# Altium schematic symbol library KEY_PLC1.SchLib: 142 symbols
Pins are listed as number, name and electrical type; pins without a type are passive.

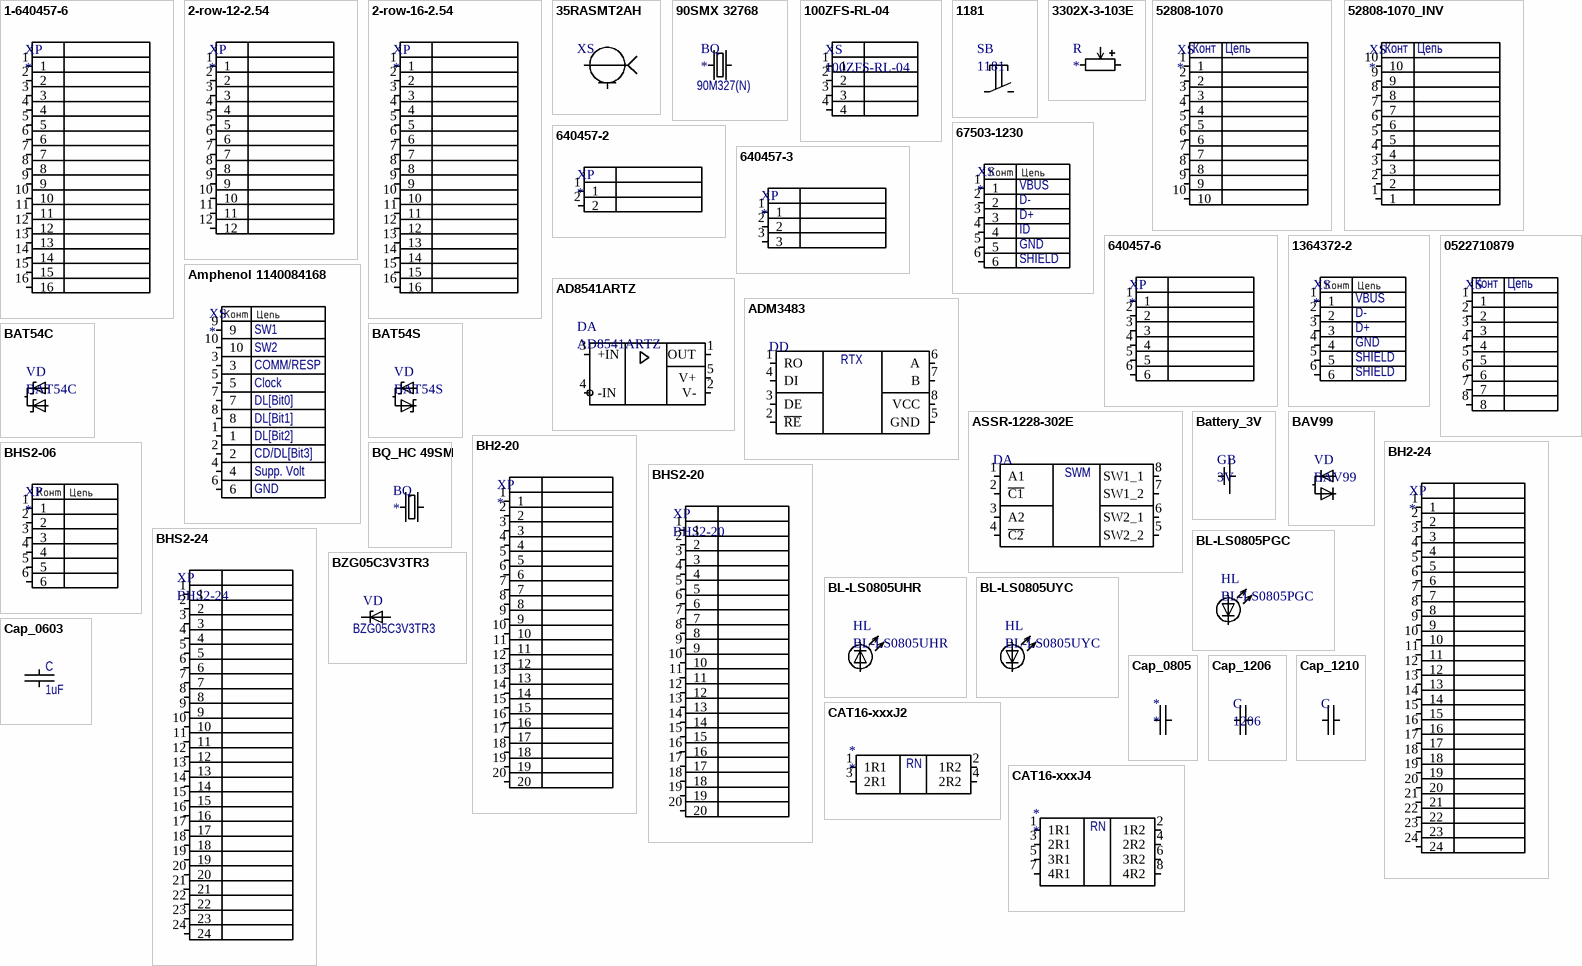
[diagram p0: symbols 1-640457-6 to CAT16-xxxJ4]

## 1-640457-6
designator XP
1-640457-6; Manufacturer: TE; Distributor: digikey; Part Number: 1-640457-6
footprint 1-640457-6
pins: 1, 2, 3, 4, 5, 6, 7, 8, 9, 10, 11, 12, 13, 14, 15, 16

## 2-row-12-2.54
designator XP
topology
footprint 2-row-2.54-12
pins: 1, 2, 3, 4, 5, 6, 7, 8, 9, 10, 11, 12

## 2-row-16-2.54
designator XP
topology
footprint 2-row-2.54-16
pins: 1, 2, 3, 4, 5, 6, 7, 8, 9, 10, 11, 12, 13, 14, 15, 16

## 35RASMT2AH
designator XS  (value not drawn)
35RASMT2AHNTRX SMT; Manufacturer: SWITCHCRAFT; PackageReference: 35RASMT2AHNTRX; Replacement: 35RASMT2AHNTRX; Part Number: 35RASMT2AHNTRX
footprint 35RASMT2AHNTRX (3.5 mm 35RASMT2AHNTRX)
pins: 4, 5

## 90SMX 32768
designator BQ  Part Number: 90M327(N)
Manufacturer: QCU; Replacement: 90M327(S); PackageReference: 90SMX
footprint 90SMX
pins: 1, 2

## 100ZFS-RL-04
designator XS
100ZFS-RL-04 type2; Manufacturer: RTC, TE; Replacement: FFC3B05-04-T; Value: 100ZFS-RL-04; Part Number: 100ZFS-RL-04 type2
footprint 100ZFS-RL-04 Type2
pins: 1, 2, 3, 4

## 1181
designator SB
PS580N button; Part Number: 1181; PackageReference: SMT
footprint 1181
pins: 1, 2

## 3302X-3-103E
designator R
Manufacturer: Bourns; Part Number: 3302X-3-103E; Price: 0.42$
footprint 3302X -3-103E (RESISTOR VARIABLE)
pins: 1, 2, 3

## 52808-1070
designator XS
MOLEX 10-way connector; Part Number: 52808-1070; PackageReference: SMT; Manufacturer: Molex
footprint 52808-1070 (52808-1070 Molex)
pins: 1, 2, 3, 4, 5, 6, 7, 8, 9, 10
text: Конт; Цепь

## 52808-1070_INV
designator XS
MOLEX 10-way connector; Part Number: 52808-1070; PackageReference: SMT; Manufacturer: Molex
footprint 52808-1070 (52808-1070 Molex)
pins: 1, 2, 3, 4, 5, 6, 7, 8, 9, 10
text: Конт; Цепь

## 67503-1230
designator XS
USB mini B; Part Number: 67503-1230; Manufacturer: MOLEX; Price: 1$; Distributor: http://www.brownbear.ru/; PackageReference: SMD
footprint 67503-1230 (67503-1230 MOLEX mini USB-B SMD)
pins: 1, 2, 3, 4, 5, 6
text: VBUS; D-; D+; ID; GND; SHIELD

## 640457-2
designator XP
640457-2; Manufacturer: TE; Price: 0.11; Distributor: digikey; Part Number: 640457-2
footprint 640457-2
pins: 1, 2

## 640457-3
designator XP
640457-3; Manufacturer: TE; Price: 0.16$; Distributor: digikey; Part Number: 640457-3
footprint 640457-3
pins: 1, 2, 3

## 640457-6
designator XP
640457-6; Manufacturer: TE; Price: 0.19$; Part Number: 640457-6
footprint 640457-6
pins: 1, 2, 3, 4, 5, 6

## 1364372-2
designator XS
USB mini B; Part Number: 1364372-2; Manufacturer: TE; Replacement: 1364372 Molex; Price: 0.5$; Distributor: http://www.brownbear.ru/; PackageReference: SMD
footprint 1364372 (Connector; USB1.1, Type A, Thru-Hole; 4 Position; Right Angle)
pins: 1, 2, 3, 4, 5, 6
text: VBUS; D-; D+; GND; SHIELD

## 0522710879
designator XS  (value not drawn)
0522710879; Manufacturer: Molex; Price: 0.8$; Value: 0522710879; Part Number: 0522710879
footprint 0522710879 (Molex)
pins: 1, 2, 3, 4, 5, 6, 7, 8
text: Конт; Цепь

## AD8541ARTZ
designator DA
OpAmp
footprint SOT23-5
pins: 1 OUT, 2 V-, 3 +IN, 4 -IN, 5 V+

## ADM3483
designator DD  (value not drawn)
RS-485 PHY; Manufacturer: Analog Devices; Replacement: ADM3483ARZ; Price: 1.1$; Distributor: http://analog.com; PackageReference: SO-8 narrow; Part Number: ADM3483ARZ
footprint SOIC8
pins: 1 RO, 2 ~{RE}, 3 DE, 4 DI, 5 GND, 6 A, 7 B, 8 VCC
text: RTX

## Amphenol 1140084168
designator XS
Manufacturer: Amphenol; Part Number: 114-00841-68; Price: 1$
footprint 114-00841-68 (uSD holder Amphenol)
pins: 1, 2, 3, 4, 5, 6, 7, 8, 9, 10
text: SW1; SW2; COMM/RESP; Clock; DL[Bit0]; DL[Bit1]; DL[Bit2]; CD/DL[Bit3]; Supp. Volt; GND

## ASSR-1228-302E
designator DA  (value not drawn)
RS-485 PHY; Manufacturer: AVAGO; Price: 2.1$; Distributor: http://www.avagotech.com; Value: ASSR-1228-302E; Replacement: ASSR-1228-302E; PackageReference: PDIP-8 GULL; Part Number: ASSR-1228-302E
footprint DIP8_GULL
pins: 1 A1, 2 ~{C1}, 3 A2, 4 ~{C2}, 5 SW2_2, 6 SW2_1, 7 SW1_2, 8 SW1_1
text: SWM

## BAT54C
designator VD
Part Number: BAT54C
footprint SOT-23
pins: 1, 2, 3

## BAT54S
designator VD
Part Number: BAT54S
footprint SOT-23
pins: 1, 2, 3

## Battery_3V
designator GB, comment 3V
Keystone - 1066; Part Number: Keystone - 1066; Price: 40.0
footprint Keystone-1066 (Bat holder)
pins: 1, 2

## BAV99
designator VD
Manufacturer: Fairchild; Distributor: Fairchild; Part Number: BAV99
footprint SOT-23
pins: 1, 2, 3

## BH2-20
designator XP
Part Number: BH2-20
footprint BH2-20
pins: 1, 2, 3, 4, 5, 6, 7, 8, 9, 10, 11, 12, 13, 14, 15, 16, 17, 18, 19, 20

## BH2-24
designator XP
footprint BH2-24
pins: 1, 2, 3, 4, 5, 6, 7, 8, 9, 10, 11, 12, 13, 14, 15, 16, 17, 18, 19, 20, 21, 22, 23, 24

## BHS2-06
designator XP
BHS2-06; Price: 10; Distributor: http://www.brownbear.ru/; Part Number: BHS2-06; PackageReference: SMD; Manufacturer: http://www.brownbear.ru/
footprint BHS2-06
pins: 1, 2, 3, 4, 5, 6

## BHS2-20
designator XP
Manufacturer: http://www.mobicon.ru; PackageReference: BHS2-20; Part Number: BHS2-20; Distributor: http://www.mobicon.ru; Price: 20
footprint BHS2-20
pins: 1, 2, 3, 4, 5, 6, 7, 8, 9, 10, 11, 12, 13, 14, 15, 16, 17, 18, 19, 20

## BHS2-24
designator XP
Manufacturer: http://www.mobicon.ru; PackageReference: BHS2-24; Part Number: BHS2-24; Distributor: http://www.mobicon.ru; Price: 20
footprint BHS2-24
pins: 1, 2, 3, 4, 5, 6, 7, 8, 9, 10, 11, 12, 13, 14, 15, 16, 17, 18, 19, 20, 21, 22, 23, 24

## BL-LS0805PGC
designator HL
Part Number: BL-LS0805PGC; PackageReference: 0805
footprint LED_0805G
pins: 1, 2

## BL-LS0805UHR
designator HL
Manufacturer: Betlux; Distributor: http://www.chipdip.ru/; Part Number: BL-LS0805UHR; PackageReference: 0805
footprint LED_0805R (RED LED 0805)
pins: 1, 2

## BL-LS0805UYC
designator HL
Part Number: BL-LS0805UYC; PackageReference: 0805
footprint LED_0805
pins: 1, 2

## BQ_HC 49SM
designator BQ
footprint HC 49SM
pins: 1, 2

## BZG05C3V3TR3
designator VD
Price: 0.2$; Distributor: http://www.chipdip.ru/; Part Number: BZG05C3V3TR3; PackageReference: DO-214AC; Replacement: BZG05C3V3TR3
footprint DO-214AC
pins: 1, 2

## Cap_0603
designator C, comment 1uF
Manufacturer: AVX; Part Number: 0603YC105KAT2A; Replacement: GRM188R71E105KA12D; PackageReference: 0603; Value: 1uF; Distributor: http://www.rospek.ru; Price: 3.00
footprint CAP_0603
pins: 1, 2

## Cap_0805
designator *
footprint C_0805 (Chip, Body 1.6x0.85mm, IPC High Density)
pins: 1, 2

## Cap_1206
designator С, comment 1206
Manufacturer: Murata; Part Number: GRM31CR61A476KE15L; Replacement: 1206 47uF 10V X5R; PackageReference: 1206
footprint CAP1206 (Capacitor 1206)
pins: 1, 2

## Cap_1210
designator C
Manufacturer: KEMET; Part Number: C1210C475K5RACAUTO; Value: 4.7uF; PackageReference: 1210; Distributor: http://chipdip.ru/; Price: 80
footprint CAP1210 (Capacitor 1210)
pins: 1, 2

## CAT16-xxxJ2
designator *
footprint CAT16-xxxJ2
pins: 1 1R1, 2 1R2, 3 2R1, 4 2R2
text: RN

## CAT16-xxxJ4
designator *
footprint CAT16-xxxJ4
pins: 1 1R1, 2 1R2, 3 2R1, 4 2R2, 5 3R1, 6 3R2, 7 4R1, 8 4R2
text: RN

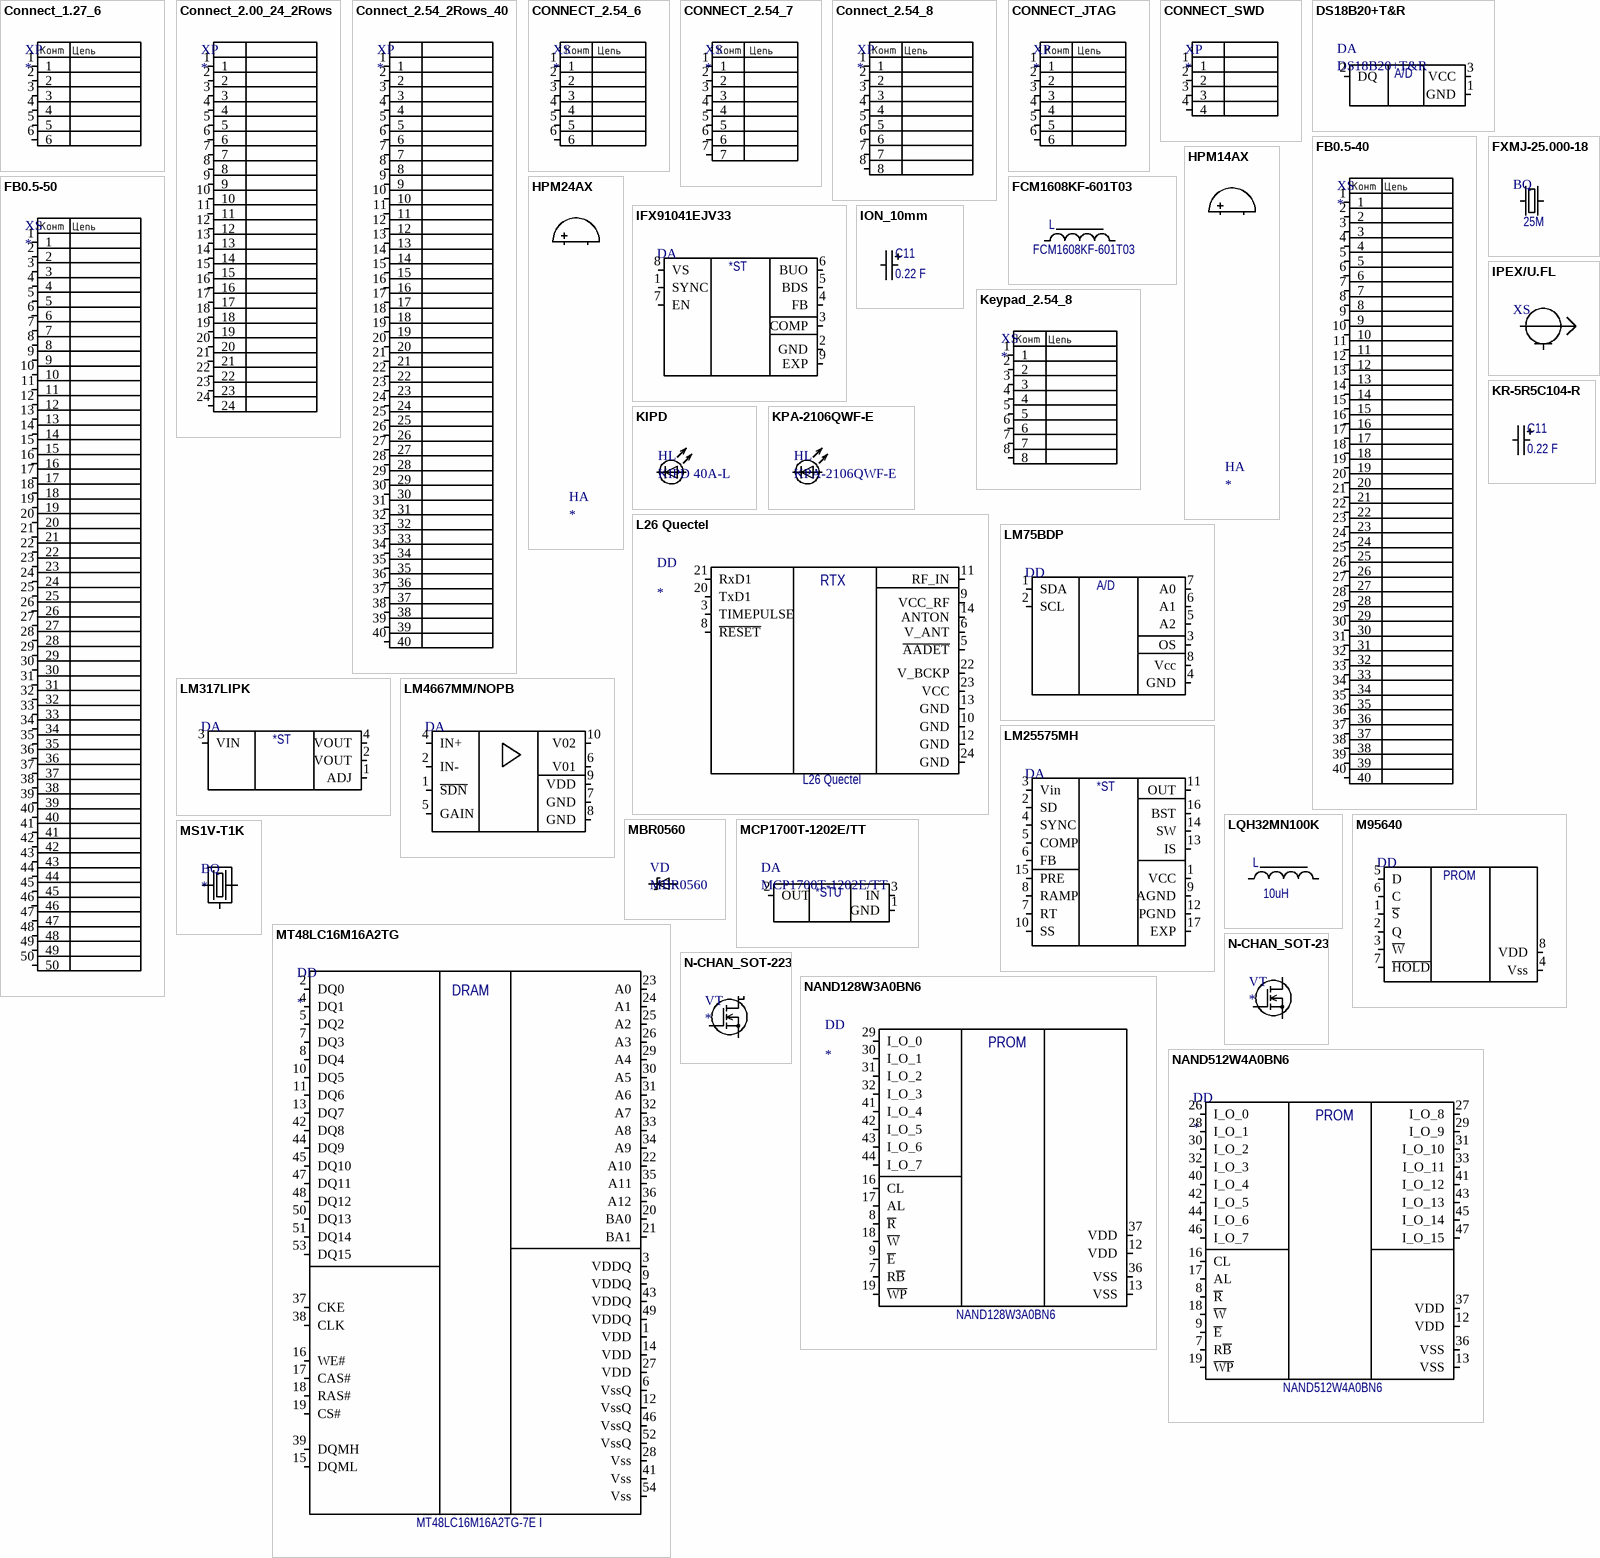
[diagram p1: symbols Connect_1.27_6 to NAND512W4A0BN6]

## Connect_1.27_6
designator XP
Part Number: PLL1.27-6
footprint CONN_1.24_6
pins: 1, 2, 3, 4, 5, 6

## Connect_2.00_24_2Rows
designator XP
footprint PLD2-24
pins: 1, 2, 3, 4, 5, 6, 7, 8, 9, 10, 11, 12, 13, 14, 15, 16, 17, 18, 19, 20, 21, 22, 23, 24

## Connect_2.54_2Rows_40
designator XP
footprint CONN_2.54_2Row_40
pins: 1, 2, 3, 4, 5, 6, 7, 8, 9, 10, 11, 12, 13, 14, 15, 16, 17, 18, 19, 20, 21, 22, 23, 24, 25, 26, 27, 28, 29, 30, 31, 32, 33, 34, 35, 36, 37, 38, 39, 40

## CONNECT_2.54_6
designator XS
footprint CONN_2.54_6
pins: 1, 2, 3, 4, 5, 6

## CONNECT_2.54_7
designator XS
footprint CONN_2.54_7
pins: 1, 2, 3, 4, 5, 6, 7

## Connect_2.54_8
designator XP
footprint CONN_2.54_8
pins: 1, 2, 3, 4, 5, 6, 7, 8

## CONNECT_JTAG
designator XP
footprint CONN_2.54_6
pins: 1, 2, 3, 4, 5, 6

## CONNECT_SWD
designator XP
footprint CONN_2.54_4
pins: 1, 2, 3, 4

## DS18B20+T&R
designator DA
Manufacturer: Texas Instruments; Price: 0.6; Distributor: http://www.compel.ru/; Part Number: DS18B20+T&R; PackageReference: TO-92
footprint TO-92 (TO-92 3-pins)
pins: 1 GND, 2 DQ, 3 VCC
text: A/D

## FB0.5-40
designator XS
FB0.5-40; Price: 30; Distributor: http://www.brownbear.ru/; Part Number: FB0.5-40; PackageReference: SMD-40; Manufacturer: http://www.brownbear.ru/
footprint FB0.5-40
pins: 1, 2, 3, 4, 5, 6, 7, 8, 9, 10, 11, 12, 13, 14, 15, 16, 17, 18, 19, 20, 21, 22, 23, 24, 25, 26, 27, 28, 29, 30, 31, 32, 33, 34, 35, 36, 37, 38, 39, 40

## FB0.5-50
designator XS
FB0.5-50; Part Number: 050ZFS-RU-50 type 2; Manufacturer: RCT; Replacement: FCI 62684-502100ALF; Price: 1$; PackageReference: SMD-50
footprint FB0.5-50 (050ZFS-RU-50 type 2)
pins: 1, 2, 3, 4, 5, 6, 7, 8, 9, 10, 11, 12, 13, 14, 15, 16, 17, 18, 19, 20, 21, 22, 23, 24, 25, 26, 27, 28, 29, 30, 31, 32, 33, 34, 35, 36, 37, 38, 39, 40, 41, 42, 43, 44, 45, 46, 47, 48, 49, 50

## FCM1608KF-601T03
designator L  value FCM1608KF-601T03
FCM1608KF-601T03; Manufacturer: Tai-tech; Replacement: 600 ohm @100 MHz; PackageReference: 0603; Part Number: FCM1608KF-601T03; Distributor: http://www.chipdip.ru; Price: 0.1$
footprint R_IND_0603 (Chip, Body 1.6x0.85mm, IPC High Density)
pins: 1, 2

## FXMJ-25.000-18
designator BQ  value 25M  (hidden comment: *)
Manufacturer: Murata; Part Number: FXMJ-25.000-18; PackageReference: MJ0532; Price: 1$
footprint Crystal_0532
pins: 1, 2

## HPM14AX
designator HA
footprint HPM14AX
pins: 1, 2

## HPM24AX
designator HA
footprint HPM24AX
pins: 1, 2

## IFX91041EJV33
designator DA  (value not drawn)
Manufacturer: Infenion; Price: 1.0$; Distributor: infenion.com; Replacement: IFX91041EJV33; PackageReference: PG-DSO-8-27; Part Number: IFX91041EJV33
footprint SO-G8/E3 (Small Outline; 8 Leads; Body Width 3.9 mm; Pitch 1.27 mm)
pins: 1 SYNC, 2 GND, 3 COMP, 4 FB, 5 BDS, 6 BUO, 7 EN, 8 VS, 9 EXP
text: *ST

## ION_10mm
designator C11, comment 0.22 F
supercapacitor 0.22 uF; Manufacturer: Panasonic; Replacement: EECS0HD224H; Value: 0.22F; PackageReference: AXIAL 10; Part Number: EECS0HD224H; Distributor: panasonic.com; Price: 1$
footprint EECS0HD224H
pins: 1, 2
1 alternate drawing of the same symbol

## IPEX/U.FL
designator XS  (value not drawn)
IPEX/U.FL male pcb SMT; Manufacturer: taoglas limited; Replacement: 20279-001E-01; PackageReference: IPEX/U.FL; Part Number: 20279-001E-01
footprint IPEX MHFI (SOT23, 3-Leads, Body 2.9x1.3mm, Pitch 0.95mm, Lead Span 2.3mm - Reverse Pinning, IPC Medium Density)
pins: 1, 2

## Keypad_2.54_8
designator XS
footprint Keypad_2.54_8
pins: 1, 2, 3, 4, 5, 6, 7, 8

## KIPD
designator HL, comment KIPD 40A-L
footprint kipd
pins: 1, 2

## KPA-2106QWF-E
designator HL
Manufacturer: Kingbright; Replacement: 0802 ultrabright LED white; Distributor: http://www.chip-dip.ru; Part Number: KPA-2106QWF-E; PackageReference: 0802
footprint LED_0805
pins: 1, 2

## KR-5R5C104-R
designator C11, comment 0.22 F
supercapacitor 0.22 uF; Manufacturer: Panasonic; Replacement: KR-5R5C224-R; Value: 0.1F; PackageReference: AXIAL 10; Part Number: KR-5R5C224-R; Distributor: panasonic.com; Price: 0.6$
footprint KR-5R5C104-R (ionister 0.1 F)
pins: 1, 2
1 alternate drawing of the same symbol

## L26 Quectel
designator DD  Part Number: L26 Quectel
GPS receiver; Manufacturer: Quectel; Price: 8$; Replacement: L26 Quectel; PackageReference: LLC 24
footprint VK1612U
pins: 3 TIMEPULSE, 5 ~{AADET}, 6 V_ANT, 8 ~{RESET}, 9 VCC_RF, 10 GND, 11 RF_IN, 12 GND, 13 GND, 14 ANTON, 20 TxD1, 21 RxD1, 22 V_BCKP, 23 VCC, 24 GND
text: RTX

## LM75BDP
designator DD  (value not drawn)
LM75BDP TEMPERATURE SENSOR; Manufacturer: NXP; Price: 0.4$; Distributor: http://nxp.com; Replacement: LM75BDP; PackageReference: TSSOP; Part Number: LM75BDP
footprint TSSO3x5-G8/X.4 (Shrink Small Outline, MSOP; 8 Leads; Body Width 3 mm; Pitch 0.65 mm)
pins: 1 SDA, 2 SCL, 3 OS, 4 GND, 5 A2, 6 A1, 7 A0, 8 Vcc
text: A/D

## LM317LIPK
designator DA  (value not drawn)
Manufacturer: Texas Instruments; Price: 0.1$; Distributor: TI; Replacement: LM317LIPK; PackageReference: SOT-89; Part Number: LM317LIPK
footprint SOT-89 (SOT-223/SC-73; 4 Leads; Body 6.7 x 7.3 mm, inc. leads (LxW max))
pins: 1 ADJ, 2 VOUT, 3 VIN, 4 VOUT
text: *ST

## LM4667MM/NOPB
designator DA
LM4667MM/NOPB; Manufacturer: TEXAS INSTRUMENTS; Price: 0.6$; Distributor: TE; Replacement: LM4667MM/NOPB; PackageReference: VSSOP-10; Part Number: LM4667MM/NOPB
footprint S-PDSO-G10 (Shrink Small Outline; 10 Leads; Body Width 3 mm; Pitch 0.5 mm)
pins: 1 ~{SDN}, 2 IN-, 4 IN+, 5 GAIN, 6 V01, 7 GND, 8 GND, 9 VDD, 10 V02

## LM25575MH
designator DA  (value not drawn)
Manufacturer: Infenion; Replacement: LM25575QMHX; Price: 3.0$; Distributor: infenion.com; PackageReference: HTSSOP-16; Part Number: LM25575MH
footprint HTSSO5x6-G16 (Shrink Small Outline; 16 Leads; Body Width 4.4 mm; Pitch 0.65 mm)
pins: 1 VCC, 2 SD, 3 Vin, 4 SYNC, 5 COMP, 6 FB, 7 RT, 8 RAMP, 9 AGND, 10 SS, 11 OUT, 12 PGND, 13 IS, 14 SW, 15 PRE, 16 BST, 17 EXP
text: *ST

## LQH32MN100K
designator L, comment 10uH
10 uH 1210; Manufacturer: Murata; Part Number: LQH32MN100K; Replacement: LQH3C100K24; PackageReference: 1210; Distributor: http://www.chipdip.ru; Price: 10
footprint 1210
pins: 1, 2

## M95640
designator DD, comment M95640-WDW6TP_TSSOP-8  (value not drawn)
Manufacturer: ST; Replacement: M95640-RDW6TP; Price: 0.25$; Distributor: http://st.com; PackageReference: TSSOP-8; Part Number: M95640-WDW6TP
footprint TSSO3x5-G8/X.4 (Shrink Small Outline, MSOP; 8 Leads; Body Width 3 mm; Pitch 0.65 mm)
pins: 1 ~{S}, 2 Q, 3 ~{W}, 4 Vss, 5 D, 6 C, 7 ~{HOLD}, 8 VDD
text: PROM

## MBR0560
designator VD
Price: 0.2$; Distributor: http://www.chipdip.ru/; Part Number: MBR0560; Replacement: MBR0560; PackageReference: SOD-123
footprint SOD-123
pins: 1, 2

## MCP1700T-1202E/TT
designator DA
Manufacturer: Microchip; PackageReference: SOT-23; Part Number: MCP1700T-1202E/TT; Distributor: http://radel.ru; Price: 20
footprint SOT-23
pins: 1 GND, 2 OUT, 3 IN
text: *STU

## MS1V-T1K
designator BQ
MS1V-T1K Quartz 32kHz 6pF; Part Number: MS1V-T1K 32.768kHZ 7pF
footprint Quartz32k (Resonator 32kHz)
pins: 1, 2, 3

## MT48LC16M16A2TG
designator DD  Part Number: MT48LC16M16A2TG-7E I
DRAM; Manufacturer: ST; Replacement: MT48LC16M16A2P-7E I; Price: 1$; Distributor: mouser; PackageReference: TSOP-54
footprint TSOP-54
pins: 1 VDD, 2 DQ0, 3 VDDQ, 4 DQ1, 5 DQ2, 6 VssQ, 7 DQ3, 8 DQ4, 9 VDDQ, 10 DQ5, 11 DQ6, 12 VssQ, 13 DQ7, 14 VDD, 15 DQML, 16 WE#, 17 CAS#, 18 RAS#, 19 CS#, 20 BA0, 21 BA1, 22 A10, 23 A0, 24 A1, 25 A2, 26 A3, 27 VDD, 28 Vss, 29 A4, 30 A5, 31 A6, 32 A7, 33 A8, 34 A9, 35 A11, 36 A12, 37 CKE, 38 CLK, 39 DQMH, 41 Vss, 42 DQ8, 43 VDDQ, 44 DQ9, 45 DQ10, 46 VssQ, 47 DQ11, 48 DQ12, 49 VDDQ, 50 DQ13, 51 DQ14, 52 VssQ, 53 DQ15, 54 Vss

## N-CHAN_SOT-23
designator VT
footprint SOT-23
pins: 1, 2, 3

## N-CHAN_SOT-223
designator VT
Part Number: IRLL2705; PackageReference: SOT-223 TO-261AA
footprint SOT-223 (SOT-223/SC-73; 4 Leads; Body 6.7 x 7.3 mm, inc. leads (LxW max))
pins: 1, 2, 3, 4

## NAND128W3A0BN6
designator DD  Part Number: NAND128W3A0BN6
128 Mbits memory; Manufacturer: ST; Price: 1.5$; PackageReference: TSOP48 20x12
footprint TSSO12x20-G48/P.5 (Shrink Small Outline; 48 Leads; Body Width 18.4 mm; Pitch 0.5 mm)
pins: 7 R~{B}, 8 ~{R}, 9 ~{E}, 12 VDD, 13 VSS, 16 CL, 17 AL, 18 ~{W}, 19 ~{WP}, 29 I_O_0, 30 I_O_1, 31 I_O_2, 32 I_O_3, 36 VSS, 37 VDD, 41 I_O_4, 42 I_O_5, 43 I_O_6, 44 I_O_7
text: PROM

## NAND512W4A0BN6
designator DD  Part Number: NAND512W4A0BN6
128 Mbits memory; Manufacturer: ST; Price: 1.5$; PackageReference: TSOP48 20x12
footprint TSSO12x20-G48/P.5 (Shrink Small Outline; 48 Leads; Body Width 18.4 mm; Pitch 0.5 mm)
pins: 7 R~{B}, 8 ~{R}, 9 ~{E}, 12 VDD, 13 VSS, 16 CL, 17 AL, 18 ~{W}, 19 ~{WP}, 26 I_O_0, 27 I_O_8, 28 I_O_1, 29 I_O_9, 30 I_O_2, 31 I_O_10, 32 I_O_3, 33 I_O_11, 36 VSS, 37 VDD, 40 I_O_4, 41 I_O_12, 42 I_O_5, 43 I_O_13, 44 I_O_6, 45 I_O_14, 46 I_O_7, 47 I_O_15
text: PROM

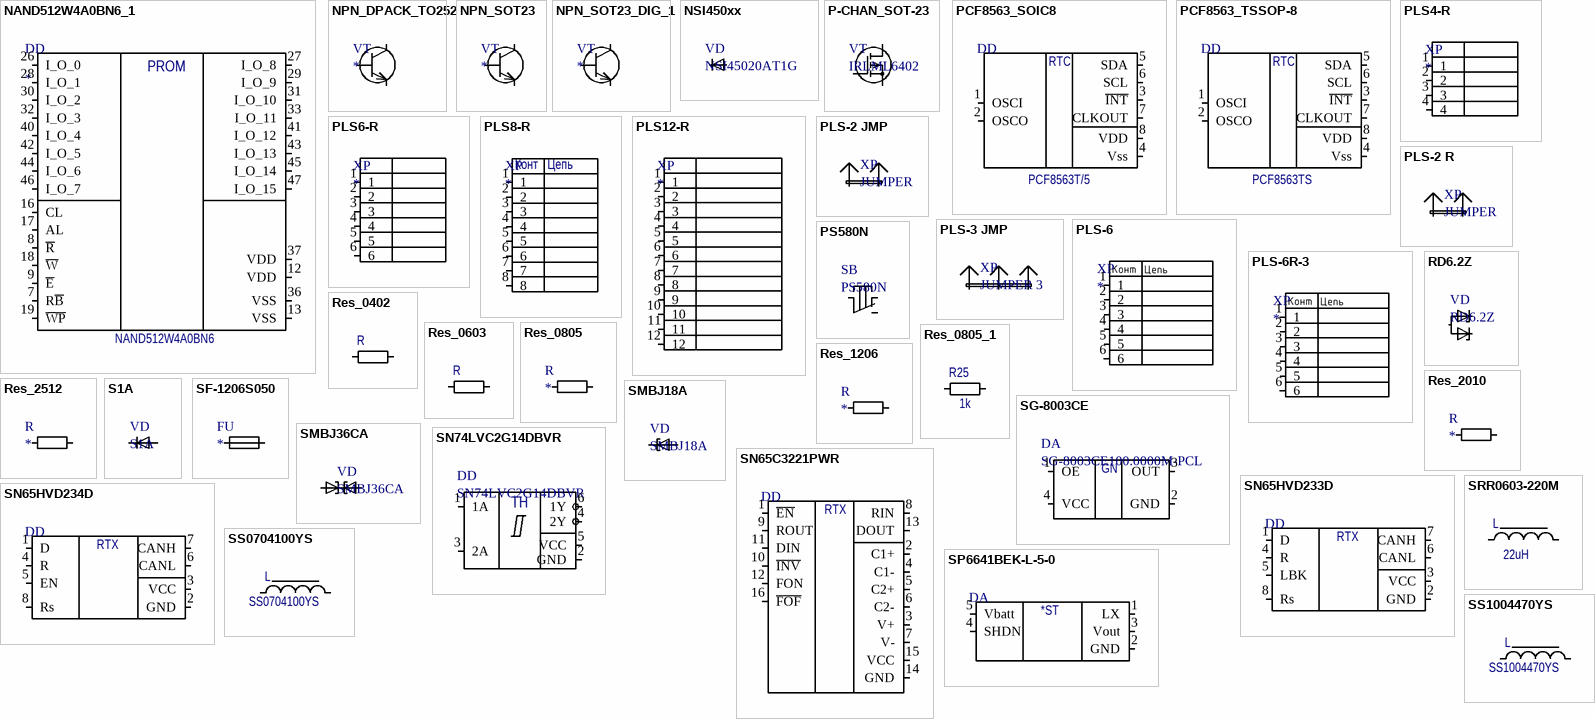
[diagram p2: symbols NAND512W4A0BN6_1 to SS1004470YS]

## NAND512W4A0BN6_1
designator DD  Part Number: NAND512W4A0BN6
128 Mbits memory; Manufacturer: ST; Price: 1.5$; PackageReference: TSOP48 20x12
footprint TSSO12x20-G48/P.5 (Shrink Small Outline; 48 Leads; Body Width 18.4 mm; Pitch 0.5 mm)
pins: 7 R~{B}, 8 ~{R}, 9 ~{E}, 12 VDD, 13 VSS, 16 CL, 17 AL, 18 ~{W}, 19 ~{WP}, 26 I_O_0, 27 I_O_8, 28 I_O_1, 29 I_O_9, 30 I_O_2, 31 I_O_10, 32 I_O_3, 33 I_O_11, 36 VSS, 37 VDD, 40 I_O_4, 41 I_O_12, 42 I_O_5, 43 I_O_13, 44 I_O_6, 45 I_O_14, 46 I_O_7, 47 I_O_15
text: PROM

## NPN_DPACK_TO252
designator VT
ZXT849K DPACK NPN; Part Number: ZXT849K
footprint TO-252 (TO252)
pins: 1, 2, 3

## NPN_SOT23
designator VT
BC817-40; Part Number: BC817-40
footprint SOT-23
pins: 1, 2, 3

## NPN_SOT23_DIG_1
designator VT
DTC144TKA NPN; Manufacturer: Discrete Semiconductors; PackageReference: sot-23; Replacement: -; Part Number: DTC144TKA; Value: -; Distributor: http://www.region-virta.ru; Price: 10
footprint SOT-23
pins: 1, 2, 3

## NSI450xx
designator VD, comment NSI45020AT1G
footprint SOD-123
pins: 1, 2

## P-CHAN_SOT-23
designator VT, comment IRLML6402
Part Number: IRLML6402
footprint SOT-23
pins: 1, 2, 3

## PCF8563_SOIC8
designator DD  Part Number: PCF8563T/5  (hidden comment: PCF8563_SOIC8)
Manufacturer: NXP; Price: 0.3$; Replacement: PCF8563T/5; PackageReference: SO-8
footprint SOIC8
pins: 1 OSCI, 2 OSCO, 3 ~{INT}, 4 Vss, 5 SDA, 6 SCL, 7 CLKOUT, 8 VDD
text: RTC

## PCF8563_TSSOP-8
designator DD  Part Number: PCF8563TS  (hidden comment: PCF8563_TSSOP-8)
Manufacturer: NXP; Price: 1$; PackageReference: TSSOP-8
footprint TSSO3x5-G8/X.4 (Shrink Small Outline, MSOP; 8 Leads; Body Width 3 mm; Pitch 0.65 mm)
pins: 1 OSCI, 2 OSCO, 3 ~{INT}, 4 Vss, 5 SDA, 6 SCL, 7 CLKOUT, 8 VDD
text: RTC

## PLS4-R
designator XP
Part Number: PLS4-R; Manufacturer: TE; Price: 0.01$
footprint PLS4-R
pins: 1, 2, 3, 4

## PLS6-R
designator XP
Part Number: PLS6-R; Manufacturer: TE; Price: 0.02$
footprint PLS6-R
pins: 1, 2, 3, 4, 5, 6

## PLS8-R
designator XP
Part Number: PLS8-R; Manufacturer: TE; Price: 0.02$
footprint PLS8-R
pins: 1, 2, 3, 4, 5, 6, 7, 8
text: Конт; Цепь

## PLS12-R
designator XP
Part Number: PLS12-R; Manufacturer: TE; Price: 0.03$; PackageReference: SIP 2,54
footprint PLS12-R
pins: 1, 2, 3, 4, 5, 6, 7, 8, 9, 10, 11, 12

## PLS-2 JMP
designator XP, comment JUMPER
JUMPER 2.54; Part Number: PLS-2
footprint CONN_2.54_2
pins: 1, 2

## PLS-2 R
designator XP, comment JUMPER
JUMPER 2.54; Manufacturer: TE; Part Number: PLS-2R; Distributor: www.brownbear.ru; Price: 0.05$
footprint PLS2-R
pins: 1, 2

## PLS-3 JMP
designator XP, comment JUMPER 3
JUMPER 2.54 3; Manufacturer: Zhenqin; Part Number: PLS-3; PackageReference: PLS-3; Distributor: http://www.chipdip.ru; Price: 1
footprint CONN_2.54_3
pins: 1, 2, 2

## PLS-6
designator XP
PLS-6; Manufacturer: CONNFLY; PackageReference: DIP-6; Replacement: -; Part Number: PLS-6; Value: -; Distributor: http://www.brownbear.ru/; Price: 9.80
footprint PLS-6 (PLS connector)
pins: 1, 2, 3, 4, 5, 6

## PLS-6R-3
designator XP
Manufacturer: CONNFLY; Part Number: PLS-6R-3; PackageReference: DIP-6; Replacement: -; Value: -; Distributor: http://www.brownbear.ru/; Price: 9.80
footprint PLS-6R-3 (PLS connector)
pins: 1, 2, 3, 4, 5, 6

## PS580N
designator SB
PS580N button; Manufacturer: Wealth Metal Factory; Price: 25; Distributor: http://chipdip.ru; Part Number: PS580N; PackageReference: SOP-6
footprint PS580N (button)
pins: 1, 2, 3

## RD6.2Z
designator VD
Manufacturer: NEC; Price: 0.1$; Part Number: RD6.2Z
footprint SC-59 (SOT23, 3-Leads, Body 2.9x1.3mm, Pitch 0.95mm, Lead Span 2.3mm - Reverse Pinning, IPC Medium Density)
pins: 1, 2, 3

## Res_0402
designator R
0402; Manufacturer: BOURNS; Part Number: CR0402-FX-1000GLF; Replacement: 0402 100 Ohm 5%; Value: 100; PackageReference: 0402; Distributor: http://www.kontest.ru; Price: 0.01$
footprint RES_0402 (RES and IND)
pins: 1, 2

## Res_0603
designator R
0603; Manufacturer: Vishay; Part Number: CRCW0603100RJNEA; Replacement: 0805 100 Ohm 5%; Value: 100; PackageReference: 0603; Distributor: http://www.kontest.ru; Price: 1.00
footprint RES_0603 (RES and IND)
pins: 1, 2

## Res_0805
designator R
footprint Res_0805
pins: 1, 2

## Res_0805_1
designator R25, comment 1k
0805 1kOhm 5% 0.125W; Manufacturer: Vishay; Part Number: CRCW08051K00JNTA; Replacement: RC0805JR-071K5L; PackageReference: 0805; Value: 1k; Distributor: http://www.kontest.ru; Price: 1.00
footprint Res_0805
pins: 1, 2

## Res_1206
designator R
footprint Res_1206
pins: 1, 2

## Res_2010
designator R
2010
footprint Res_2010 (2010)
pins: 1, 2

## Res_2512
designator R
2512 resistor
footprint Res_2512 (2512)
pins: 1, 2

## S1A
designator VD
Manufacturer: Fairchild; Price: 3; Distributor: http://www.chipdip.ru/; Part Number: S1A; PackageReference: DO-214AC
footprint DO-214AC
pins: 1, 2

## SF-1206S050
designator FU
Fuse 0.5A; Manufacturer: Bourns; Part Number: SF-1206S050; Replacement: 1206 fuse 0.5A
footprint Res_1206
pins: 1, 2

## SG-8003CE
designator DA, comment SG-8003CE100.0000M-PCL
Manufacturer: Epson; Price: 500; Distributor: http://www.compel.ru/; Part Number: SG-8003CE100.0000M-PCL; PackageReference: CE SMD
footprint SG-8003CE
pins: 1 OE, 2 GND, 3 OUT, 4 VCC
text: GN

## SMBJ18A
designator VD
Manufacturer: DIODES; Price: 30; Distributor: http://www.chipdip.ru/; Part Number: SMBJ18A; PackageReference: DO-214AC
footprint DO-214AC
pins: 1, 2

## SMBJ36CA
designator VD
Manufacturer: DIODES; Price: 0.5$; Distributor: http://www.chipdip.ru/; Part Number: SMBJ36CA; PackageReference: DO-214AA
footprint SMBJ
pins: 1, 2

## SN65C3221PWR
designator DD  (value not drawn)
RS-232 PHY CAN PHY; Manufacturer: TI; Replacement: SP3221E EXAR; Price: 1.05$; Distributor: http://ti.com; PackageReference: TSSOP-16; Part Number: SN65C3221PWR
footprint TSSO5x6-G16 (Shrink Small Outline; 16 Leads; Body Width 4.4 mm; Pitch 0.65 mm)
pins: 1 ~{EN}, 2 C1+, 3 V+, 4 C1-, 5 C2+, 6 C2-, 7 V-, 8 RIN, 9 ROUT, 10 ~{INV}, 11 DIN, 12 FON, 13 DOUT, 14 GND, 15 VCC, 16 ~{FOF}
text: RTX

## SN65HVD233D
designator DD  (value not drawn)
SN65HVD233D CAN PHY; Manufacturer: TI; Price: 1.5$; Distributor: http://ti.com; Replacement: SN65HVD233D; PackageReference: SO-8; Part Number: SN65HVD233D
footprint SOIC8
pins: 1 D, 2 GND, 3 VCC, 4 R, 5 LBK, 6 CANL, 7 CANH, 8 Rs
text: RTX

## SN65HVD234D
designator DD  (value not drawn)
SN65HVD234D CAN PHY; Manufacturer: TI; Price: 1.5$; Distributor: http://ti.com; Replacement: SN65HVD234D; PackageReference: SO-8; Part Number: SN65HVD234D
footprint SOIC8
pins: 1 D, 2 GND, 3 VCC, 4 R, 5 EN, 6 CANL, 7 CANH, 8 Rs
text: RTX

## SN74LVC2G14DBVR
designator DD
Part Number: SN74LVC2G14DBVR
footprint SOT23-6
pins: 1 1A, 2 GND, 3 2A, 4 2Y, 5 VCC, 6 1Y
text: TH

## SP6641BEK-L-5-0
designator DA  (value not drawn)
Manufacturer: EXAR; Price: 0.5$; Distributor: farnell.com; Replacement: SP6641BEK-L-5-0; PackageReference: SOT23-5; Part Number: SP6641BEK-L-5-0
footprint SOT23-5
pins: 1 LX, 2 GND, 3 Vout, 4 SHDN, 5 Vbatt
text: *ST

## SRR0603-220M
designator L, comment 22uH
22 uH 1210; Manufacturer: Bourns; Replacement: SRR0603-220M; PackageReference: SMD; Part Number: SRR0603-220M; Distributor: http://www.chipdip.ru; Price: 40
footprint SRR0603-220M
pins: 1, 2

## SS0704100YS
designator L  value SS0704100YS
SS0704100YS; Manufacturer: ABC; Replacement: 10uH SS070; PackageReference: 0603; Part Number: SS0704100YS; Distributor: http://www.chipdip.ru; Price: 1$
footprint SS0704 (Chip Inductor, Body o7.5mm)
pins: 1, 2

## SS1004470YS
designator L  value SS1004470YS
SS1004470YS; Manufacturer: ABC; Replacement: 47uH; PackageReference: SS1004; Part Number: SS1004470YS; Distributor: http://www.chipdip.ru; Price: 1$
footprint SS1004 (Chip Inductor, Body o10mm)
pins: 1, 2

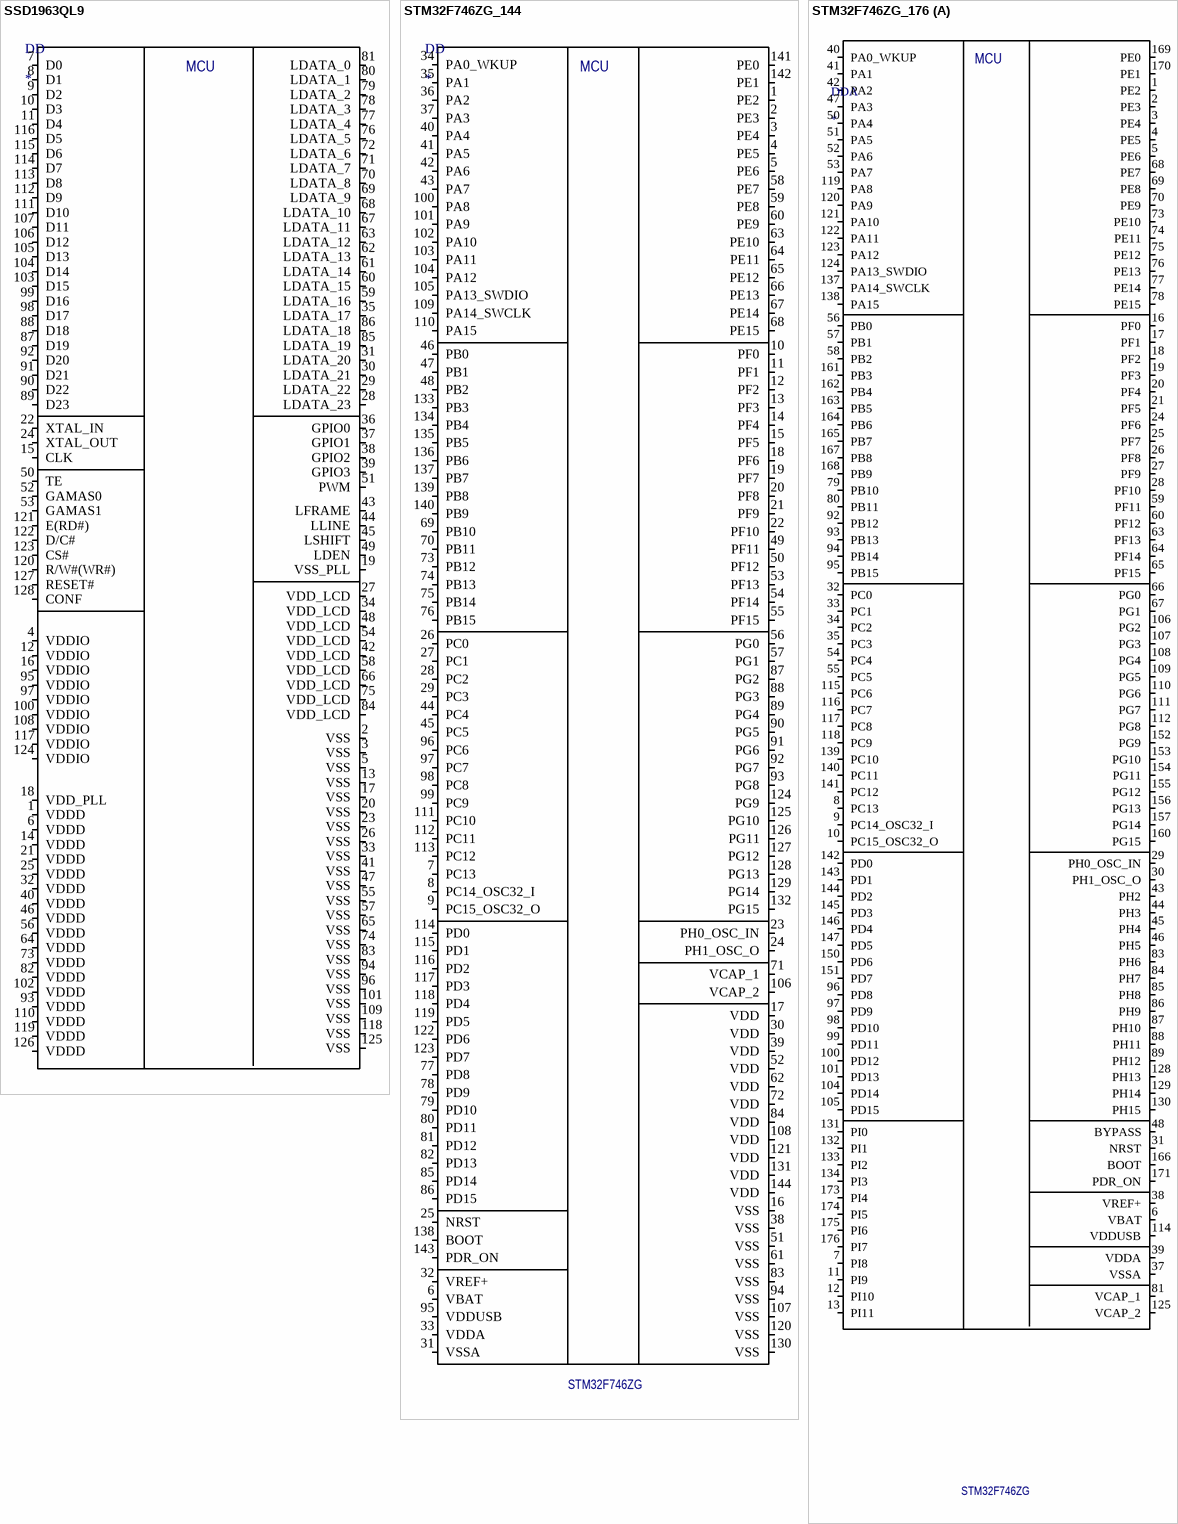
[diagram p3: symbols SSD1963QL9 to STM32F746ZG_176]

## SSD1963QL9
designator DD
LCD driver; Part Number: SSD1963QL9; Manufacturer: SLOMON; Price: 1000; Distributor: rospek.ru; PackageReference: LQFP-128
footprint LQFP-128
pins: 1 VDDD, 2 VSS, 3 VSS, 4 VDDIO, 5 VSS, 6 VDDD, 7 D0, 8 D1, 9 D2, 10 D3, 11 D4, 12 VDDIO, 13 VSS, 14 VDDD, 15 CLK, 16 VDDIO, 17 VSS, 18 VDD_PLL, 19 VSS_PLL, 20 VSS, 21 VDDD, 22 XTAL_IN, 23 VSS, 24 XTAL_OUT, 25 VDDD, 26 VSS, 27 VDD_LCD, 28 LDATA_23, 29 LDATA_22, 30 LDATA_21, 31 LDATA_20, 32 VDDD, 33 VSS, 34 VDD_LCD, 35 LDATA_17, 36 GPIO0, 37 GPIO1, 38 GPIO2, 39 GPIO3, 40 VDDD, 41 VSS, 42 VDD_LCD, 43 LFRAME, 44 LLINE, 45 LSHIFT, 46 VDDD, 47 VSS, 48 VDD_LCD, 49 LDEN, 50 TE, 51 PWM, 52 GAMAS0, 53 GAMAS1, 54 VDD_LCD, 55 VSS, 56 VDDD, 57 VSS, 58 VDD_LCD, 59 LDATA_16, 60 LDATA_15, 61 LDATA_14, 62 LDATA_13, 63 LDATA_12, 64 VDDD, 65 VSS, 66 VDD_LCD, 67 LDATA_11, 68 LDATA_10, 69 LDATA_9, 70 LDATA_8, 71 LDATA_7, 72 LDATA_6, 73 VDDD, 74 VSS, 75 VDD_LCD, 76 LDATA_5, 77 LDATA_4, 78 LDATA_3, 79 LDATA_2, 80 LDATA_1, 81 LDATA_0, 82 VDDD, 83 VSS, 84 VDD_LCD, 85 LDATA_19, 86 LDATA_18, 87 D19, 88 D18, 89 D23, 90 D22, 91 D21, 92 D20, 93 VDDD, 94 VSS, 95 VDDIO, 96 VSS, 97 VDDIO, 98 D17, 99 D16, 100 VDDIO, 101 VSS, 102 VDDD, 103 D15, 104 D14, 105 D13, 106 D12, 107 D11, 108 VDDIO, 109 VSS, 110 VDDD, 111 D10, 112 D9, 113 D8, 114 D7, 115 D6, 116 D5, 117 VDDIO, 118 VSS, 119 VDDD, 120 R/W#(WR#), 121 E(RD#), 122 D/C#, 123 CS#, 124 VDDIO, 125 VSS, 126 VDDD, 127 RESET#, 128 CONF
text: MCU

## STM32F746ZG_144
designator DD  Part Number: STM32F746ZG
MCU; Manufacturer: ST; Replacement: STM32F746; Price: 15$; Distributor: mouser; PackageReference: LQFP144
footprint LQFP144
pins: 1 PE2, 2 PE3, 3 PE4, 4 PE5, 5 PE6, 6 VBAT, 7 PC13, 8 PC14_OSC32_I, 9 PC15_OSC32_O, 10 PF0, 11 PF1, 12 PF2, 13 PF3, 14 PF4, 15 PF5, 16 VSS, 17 VDD, 18 PF6, 19 PF7, 20 PF8, 21 PF9, 22 PF10, 23 PH0_OSC_IN, 24 PH1_OSC_O, 25 NRST, 26 PC0, 27 PC1, 28 PC2, 29 PC3, 30 VDD, 31 VSSA, 32 VREF+, 33 VDDA, 34 PA0_WKUP, 35 PA1, 36 PA2, 37 PA3, 38 VSS, 39 VDD, 40 PA4, 41 PA5, 42 PA6, 43 PA7, 44 PC4, 45 PC5, 46 PB0, 47 PB1, 48 PB2, 49 PF11, 50 PF12, 51 VSS, 52 VDD, 53 PF13, 54 PF14, 55 PF15, 56 PG0, 57 PG1, 58 PE7, 59 PE8, 60 PE9, 61 VSS, 62 VDD, 63 PE10, 64 PE11, 65 PE12, 66 PE13, 67 PE14, 68 PE15, 69 PB10, 70 PB11, 71 VCAP_1, 72 VDD, 73 PB12, 74 PB13, 75 PB14, 76 PB15, 77 PD8, 78 PD9, 79 PD10, 80 PD11, 81 PD12, 82 PD13, 83 VSS, 84 VDD, 85 PD14, 86 PD15, 87 PG2, 88 PG3, 89 PG4, 90 PG5, 91 PG6, 92 PG7, 93 PG8, 94 VSS, 95 VDDUSB, 96 PC6, 97 PC7, 98 PC8, 99 PC9, 100 PA8, 101 PA9, 102 PA10, 103 PA11, 104 PA12, 105 PA13_SWDIO, 106 VCAP_2, 107 VSS, 108 VDD, 109 PA14_SWCLK, 110 PA15, 111 PC10, 112 PC11, 113 PC12, 114 PD0, 115 PD1, 116 PD2, 117 PD3, 118 PD4, 119 PD5, 120 VSS, 121 VDD, 122 PD6, 123 PD7, 124 PG9, 125 PG10, 126 PG11, 127 PG12, 128 PG13, 129 PG14, 130 VSS, 131 VDD, 132 PG15, 133 PB3, 134 PB4, 135 PB5, 136 PB6, 137 PB7, 138 BOOT, 139 PB8, 140 PB9, 141 PE0, 142 PE1, 143 PDR_ON, 144 VDD

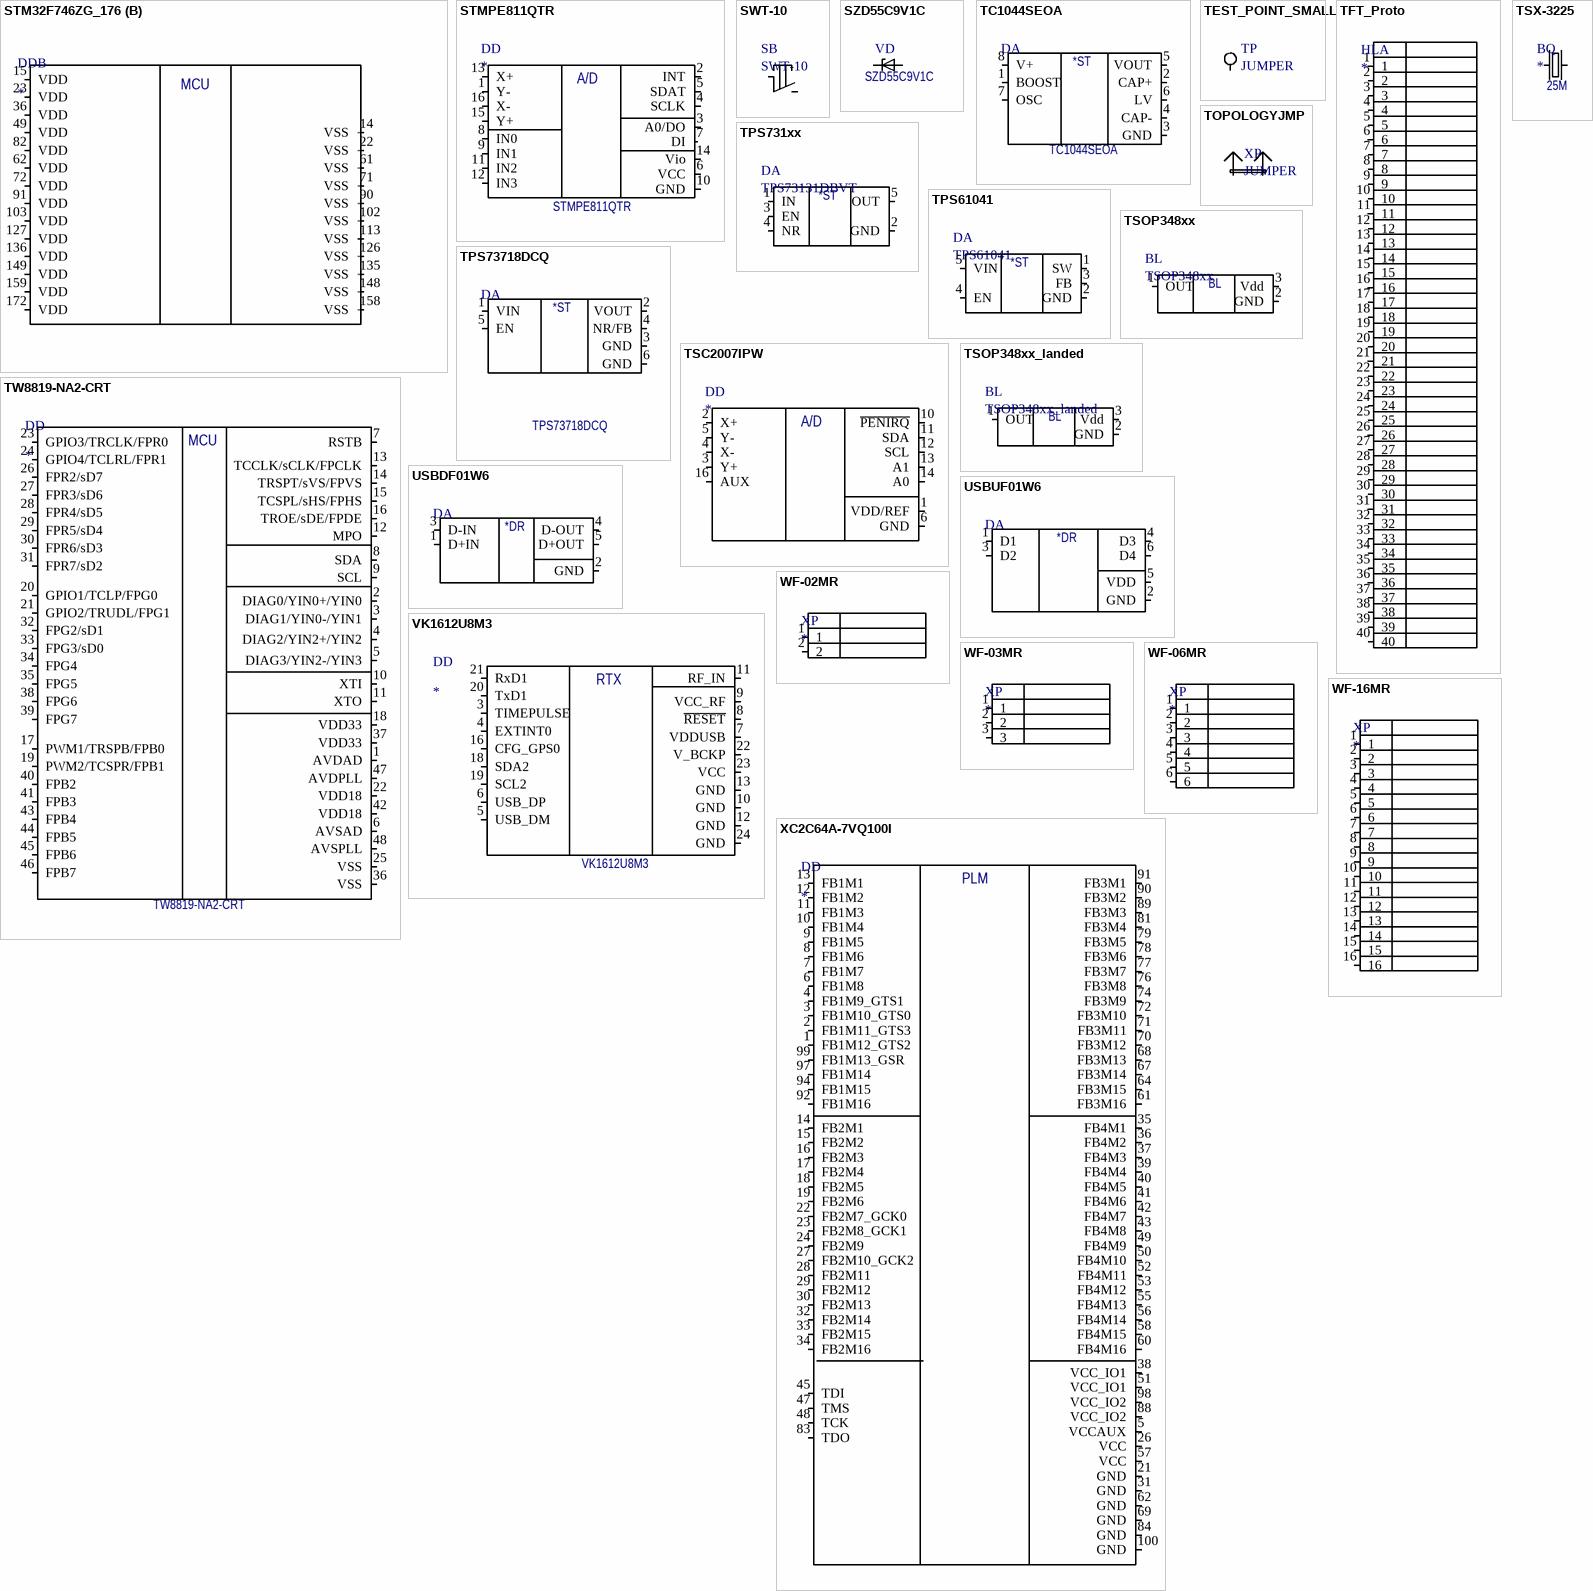
[diagram p4: symbols STM32F746ZG_176 to XC2C64A-7VQ100I]

## STM32F746ZG_176
designator DD  Part Number: STM32F746ZG
MCU; Manufacturer: ST; Replacement: STM32F746; Price: 15$; Distributor: mouser; PackageReference: LQFP144
footprint F-QFP24x24-G176/N (176-Pin Plastic Quad Flat Pack (TQFP))
part A pins: 1 PE2, 2 PE3, 3 PE4, 4 PE5, 5 PE6, 6 VBAT, 7 PI8, 8 PC13, 9 PC14_OSC32_I, 10 PC15_OSC32_O, 11 PI9, 12 PI10, 13 PI11, 16 PF0, 17 PF1, 18 PF2, 19 PF3, 20 PF4, 21 PF5, 24 PF6, 25 PF7, 26 PF8, 27 PF9, 28 PF10, 29 PH0_OSC_IN, 30 PH1_OSC_O, 31 NRST, 32 PC0, 33 PC1, 34 PC2, 35 PC3, 37 VSSA, 38 VREF+, 39 VDDA, 40 PA0_WKUP, 41 PA1, 42 PA2, 43 PH2, 44 PH3, 45 PH4, 46 PH5, 47 PA3, 48 BYPASS, 50 PA4, 51 PA5, 52 PA6, 53 PA7, 54 PC4, 55 PC5, 56 PB0, 57 PB1, 58 PB2, 59 PF11, 60 PF12, 63 PF13, 64 PF14, 65 PF15, 66 PG0, 67 PG1, 68 PE7, 69 PE8, 70 PE9, 73 PE10, 74 PE11, 75 PE12, 76 PE13, 77 PE14, 78 PE15, 79 PB10, 80 PB11, 81 VCAP_1, 83 PH6, 84 PH7, 85 PH8, 86 PH9, 87 PH10, 88 PH11, 89 PH12, 92 PB12, 93 PB13, 94 PB14, 95 PB15, 96 PD8, 97 PD9, 98 PD10, 99 PD11, 100 PD12, 101 PD13, 104 PD14, 105 PD15, 106 PG2, 107 PG3, 108 PG4, 109 PG5, 110 PG6, 111 PG7, 112 PG8, 114 VDDUSB, 115 PC6, 116 PC7, 117 PC8, 118 PC9, 119 PA8, 120 PA9, 121 PA10, 122 PA11, 123 PA12, 124 PA13_SWDIO, 125 VCAP_2, 128 PH13, 129 PH14, 130 PH15, 131 PI0, 132 PI1, 133 PI2, 134 PI3, 137 PA14_SWCLK, 138 PA15, 139 PC10, 140 PC11, 141 PC12, 142 PD0, 143 PD1, 144 PD2, 145 PD3, 146 PD4, 147 PD5, 150 PD6, 151 PD7, 152 PG9, 153 PG10, 154 PG11, 155 PG12, 156 PG13, 157 PG14, 160 PG15, 161 PB3, 162 PB4, 163 PB5, 164 PB6, 165 PB7, 166 BOOT, 167 PB8, 168 PB9, 169 PE0, 170 PE1, 171 PDR_ON, 173 PI4, 174 PI5, 175 PI6, 176 PI7
part B pins: 14 VSS, 15 VDD, 22 VSS, 23 VDD, 36 VDD, 49 VDD, 61 VSS, 62 VDD, 71 VSS, 72 VDD, 82 VDD, 90 VSS, 91 VDD, 102 VSS, 103 VDD, 113 VSS, 126 VSS, 127 VDD, 135 VSS, 136 VDD, 148 VSS, 149 VDD, 158 VSS, 159 VDD, 172 VDD

## STMPE811QTR
designator DD  Part Number: STMPE811QTR
Touchscreen controller; Manufacturer: S T; Price: 1$; Replacement: STMPE811QTR; PackageReference: QFN-16
footprint QFN3X3-16 (Quad Flat No Lead, Plastic; 16 Terminals; Body 3 x 3 mm; Pitch 0.5 mm)
pins: 1 Y-, 2 INT, 3 A0/DO, 4 SCLK, 5 SDAT, 6 VCC, 7 DI, 8 IN0, 9 IN1, 10 GND, 11 IN2, 12 IN3, 13 X+, 14 Vio, 15 Y+, 16 X-
text: A/D

## SWT-10
designator SB
PS580N button; Part Number: SWT-10; PackageReference: SMT
footprint SWT-10
pins: 1, 2

## SZD55C9V1C
designator VD
Price: 0.2$; Distributor: http://www.chipdip.ru/; Part Number: SZD55C9V1C; PackageReference: 0805; Replacement: SZD55C9V1C
footprint SZD55C9V1C (Zener 0805)
pins: 1, 2

## TC1044SEOA
designator DA
Manufacturer: MICROCHIP; Price: 0.7$; Distributor: chipdip.ru; Replacement: TC1044SEOA; PackageReference: SOIC-8; Part Number: TC1044SEOA
footprint SOIC8
pins: 1 BOOST, 2 CAP+, 3 GND, 4 CAP-, 5 VOUT, 6 LV, 7 OSC, 8 V+
text: *ST

## TEST_POINT_SMALL
designator TP, comment JUMPER
JUMPER 2.54; Manufacturer: TE; Value: JMP; Price: 0.05$
footprint TEST POINT
pins: 1

## TFT_Proto
designator HLA
footprint TFT_Proto
pins: 1, 2, 3, 4, 5, 6, 7, 8, 9, 10, 11, 12, 13, 14, 15, 16, 17, 18, 19, 20, 21, 22, 23, 24, 25, 26, 27, 28, 29, 30, 31, 32, 33, 34, 35, 36, 37, 38, 39, 40

## TOPOLOGYJMP
designator XP, comment JUMPER
JUMPER 2.54; Manufacturer: TE; Value: JMP; Price: 0.05$
footprint JMPTOPOLOGY (JMP)
pins: 1, 2

## TPS731xx
designator DA, comment TPS73131DBVT
TPS79925DDCT Linear Regulator; Part Number: TPS73131DBVT
footprint SOT23-5
pins: 1 IN, 2 GND, 3 EN, 4 NR, 5 OUT
text: *ST

## TPS61041
designator DA
TPS61041 step-Up; Manufacturer: Texas Instruments; Price: 15; Distributor: http://www.compel.ru/; Part Number: TPS61041; PackageReference: SOT-23-5
footprint SOT23-5
pins: 1 SW, 2 GND, 3 FB, 4 EN, 5 VIN
text: *ST

## TPS73718DCQ
designator DA
Manufacturer: Texas Instruments; Price: 0.1$; Distributor: TI; Replacement: TPS73718DCQ; PackageReference: SOT-89; Part Number: TPS73718DCQ
footprint SOT-223-6 (SOT-223-6/SC-73; 6Leads; Body 6.7 x 7.3 mm, inc. leads (LxW max))
pins: 1 VIN, 2 VOUT, 3 GND, 4 NR/FB, 5 EN, 6 GND
text: *ST

## TSC2007IPW
designator DD
Touchscreen controller; Part Number: TSC2007IPW; Manufacturer: TI; Price: 1$; PackageReference: TSSOP-16
footprint TSSO5x6-G16 (Shrink Small Outline; 16 Leads; Body Width 4.4 mm; Pitch 0.65 mm)
pins: 1 VDD/REF, 2 X+, 3 Y+, 4 X-, 5 Y-, 6 GND, 10 ~{PENIRQ}, 11 SDA, 12 SCL, 13 A1, 14 A0, 16 AUX
text: A/D

## TSOP348xx
designator BL
footprint TSOP348xx
pins: 1 OUT, 2 GND, 3 Vdd

## TSOP348xx_landed
designator BL
footprint TSOP348xx -landed
pins: 1 OUT, 2 GND, 3 Vdd

## TSX-3225
designator BQ  value 25M
Manufacturer: EPSON; Replacement: TSX-3225 25.0000MF20X-AJ0-ND; PackageReference: TSX-3225; Part Number: TSX-3225 25.0000MF20X-AJ0-ND
footprint TSX-3225
pins: 1, 2

## TW8819-NA2-CRT
designator DD  Part Number: TW8819-NA2-CRT
Manufacturer: Intersil; Price: 4.00$; Replacement: TW8819-NA2-CRT; PackageReference: WFQFN
footprint QFN48.7x7 (48-Pin Thin Quad Flat Pack 0.5 mm Pitch, IPC Medium Density)
pins: 1 AVDAD, 2 DIAG0/YIN0+/YIN0, 3 DIAG1/YIN0-/YIN1, 4 DIAG2/YIN2+/YIN2, 5 DIAG3/YIN2-/YIN3, 6 AVSAD, 7 RSTB, 8 SDA, 9 SCL, 10 XTI, 11 XTO, 12 MPO, 13 TCCLK/sCLK/FPCLK, 14 TRSPT/sVS/FPVS, 15 TCSPL/sHS/FPHS, 16 TROE/sDE/FPDE, 17 PWM1/TRSPB/FPB0, 18 VDD33, 19 PWM2/TCSPR/FPB1, 20 GPIO1/TCLP/FPG0, 21 GPIO2/TRUDL/FPG1, 22 VDD18, 23 GPIO3/TRCLK/FPR0, 24 GPIO4/TCLRL/FPR1, 25 VSS, 26 FPR2/sD7, 27 FPR3/sD6, 28 FPR4/sD5, 29 FPR5/sD4, 30 FPR6/sD3, 31 FPR7/sD2, 32 FPG2/sD1, 33 FPG3/sD0, 34 FPG4, 35 FPG5, 36 VSS, 37 VDD33, 38 FPG6, 39 FPG7, 40 FPB2, 41 FPB3, 42 VDD18, 43 FPB4, 44 FPB5, 45 FPB6, 46 FPB7, 47 AVDPLL, 48 AVSPLL
text: MCU

## USBDF01W6
designator DA, comment USBDF01W5  (value not drawn)
Unidirectional 2 lines Filter + ESD; Manufacturer: ST; Replacement: USBDF02W5; Price: 0.5$; Distributor: http://st.com; PackageReference: SOT-323-5; Part Number: USBDF01W5
footprint SOT323-5L
pins: 1 D+IN, 2 GND, 3 D-IN, 4 D-OUT, 5 D+OUT
text: *DR

## USBUF01W6
designator DA, comment USBUF02W6  (value not drawn)
Unidirectional 2 lines Filter + ESD + R pull up; Manufacturer: ST; Part Number: USBUF01W6; Price: 0.5$; Distributor: http://st.com; Replacement: USBUF02W6; PackageReference: SOT-323-6
footprint SOT323-6L
pins: 1 D1, 2 GND, 3 D2, 4 D3, 5 VDD, 6 D4
text: *DR

## VK1612U8M3
designator DD  Part Number: VK1612U8M3
GPS receiver; Manufacturer: VKEL; Replacement: NEO-M8N/Q UBLOX; Price: 10$; PackageReference: LLC 24
footprint VK1612U
pins: 3 TIMEPULSE, 4 EXTINT0, 5 USB_DM, 6 USB_DP, 7 VDDUSB, 8 ~{RESET}, 9 VCC_RF, 10 GND, 11 RF_IN, 12 GND, 13 GND, 16 CFG_GPS0, 18 SDA2, 19 SCL2, 20 TxD1, 21 RxD1, 22 V_BCKP, 23 VCC, 24 GND
text: RTX

## WF-02MR
designator XP
WF-02MR; Manufacturer: Connfly; Part Number: WF-02MR
footprint WF-02MR
pins: 1, 2

## WF-03MR
designator XP
WF-03MR; Manufacturer: Connfly; Part Number: WF-03MR
footprint WF-03MR
pins: 1, 2, 3

## WF-06MR
designator XP
WF-06MR; Manufacturer: Connfly; Part Number: WF-06MR
footprint WF-06MR (WF-6MR)
pins: 1, 2, 3, 4, 5, 6

## WF-16MR
designator XP
WF-16MR; Manufacturer: Connfly; Part Number: WF-16MR
footprint WF-16MR
pins: 1, 2, 3, 4, 5, 6, 7, 8, 9, 10, 11, 12, 13, 14, 15, 16

## XC2C64A-7VQ100I
designator DD
CPLD; Part Number: SSD1963QL9; Manufacturer: SLOMON; Price: 1000; Distributor: rospek.ru; PackageReference: LQFP-128
footprint VQ100_N (100-Pin Very Thin Quad Flat Pack (VQ100), IPC Medium Density)
pins: 1 FB1M12_GTS2, 2 FB1M11_GTS3, 3 FB1M10_GTS0, 4 FB1M9_GTS1, 5 VCCAUX, 6 FB1M8, 7 FB1M7, 8 FB1M6, 9 FB1M5, 10 FB1M4, 11 FB1M3, 12 FB1M2, 13 FB1M1, 14 FB2M1, 15 FB2M2, 16 FB2M3, 17 FB2M4, 18 FB2M5, 19 FB2M6, 21 GND, 22 FB2M7_GCK0, 23 FB2M8_GCK1, 24 FB2M9, 26 VCC, 27 FB2M10_GCK2, 28 FB2M11, 29 FB2M12, 30 FB2M13, 31 GND, 32 FB2M14, 33 FB2M15, 34 FB2M16, 35 FB4M1, 36 FB4M2, 37 FB4M3, 38 VCC_IO1, 39 FB4M4, 40 FB4M5, 41 FB4M6, 42 FB4M7, 43 FB4M8, 45 TDI, 47 TMS, 48 TCK, 49 FB4M9, 50 FB4M10, 51 VCC_IO1, 52 FB4M11, 53 FB4M12, 55 FB4M13, 56 FB4M14, 57 VCC, 58 FB4M15, 60 FB4M16, 61 FB3M16, 62 GND, 64 FB3M15, 67 FB3M14, 68 FB3M13, 69 GND, 70 FB3M12, 71 FB3M11, 72 FB3M10, 74 FB3M9, 76 FB3M8, 77 FB3M7, 78 FB3M6, 79 FB3M5, 81 FB3M4, 83 TDO, 84 GND, 88 VCC_IO2, 89 FB3M3, 90 FB3M2, 91 FB3M1, 92 FB1M16, 94 FB1M15, 97 FB1M14, 98 VCC_IO2, 99 FB1M13_GSR, 100 GND
text: PLM